# Altium footprint library TYPE-C-31-M-12.PcbLib: 1 footprints
Each footprint in its own frame and in the unit in brackets; x right, y up, seen from the top. Pads: shape width x height; smd on the part's side, far side on the other; paste and mask are expansions set on the pad; w line width, h text height; cw(c..) or ccw(c..) is an arc to the next point about the centre after c.
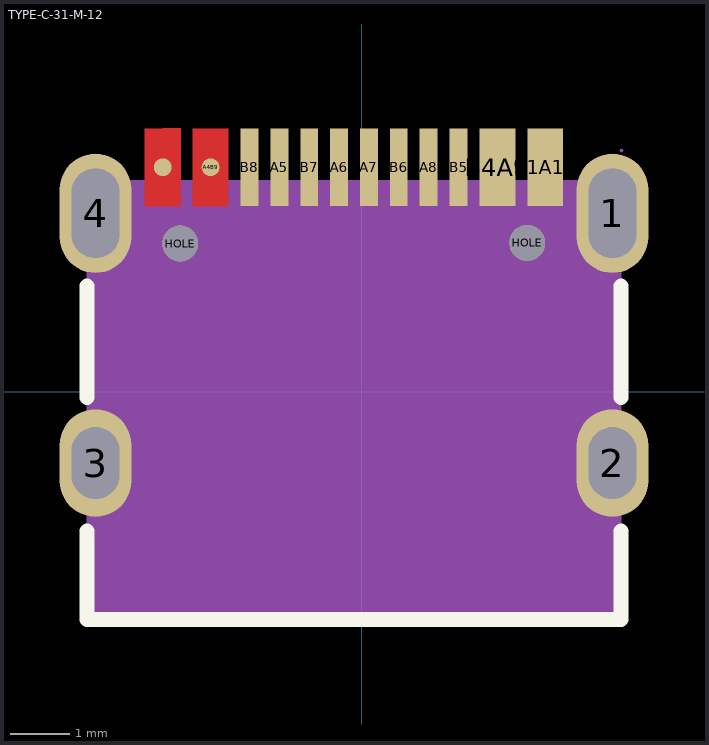
[diagram p0: the footprint, top view; thin cyan lines are the x and y axes]

## TYPE-C-31-M-12 [mil]
pads (18):
  oval 47.2x78.7 hole 31.5 slot 59.1 at 90 deg paste-99999 mask+2: 1(165.1,117.7) 4(-175.5,117.7)
  oval 47.2x70.9 hole 31.5 slot 47.2 at 90 deg paste-99999 mask+2: 2(165.1,-46.9) 3(-175.5,-46.9)
  round 11.8 smd: A1B12(-131.2,148) A4B9(-99.7,148)
  rect 11.8x51.2 smd paste-3937 mask+2: A5(-54.4,148) A6(-15,148) A7(4.6,148) A8(44,148) B5(63.7,148) B6(24.3,148) B7(-34.7,148) B8(-74.1,148)
  rect 23.6x51.2 smd paste-3937 mask+2: B1A12(120.8,148) B4A9(89.3,148)
  round 23.62 hole 23.62 unplated: HOLE(-119.73,97.79) HOLE(108.92,98.2)
Top Layer:
  region: -119.4,122.4 -119.4,173.6 -131.2,173.6 -131.2,173.5 -143,173.5 -143,122.4 -131.2,122.4
  region: -87.9,122.4 -87.9,173.5 -99.7,173.5 -111.5,173.5 -111.5,122.4 -99.7,122.4
Top Overlay:
  lines w10: -181.1,-91.7 -181.1,-150 170.8,-150 170.8,-91.7 ; -181.1,-3.6 -181.1,69.7 ; 170.8,-3.6 170.8,69.8
Top Paste:
  drawing of 16 lines, arcs and shapes, not listed
Mechanical 9:
  region: -181.2,-150 -181.2,139.4 170.8,139.4 170.8,-150
Mechanical 11:
  region: 172.2,159.1 171.8,158.2 171,157.9 170.1,158.2 169.8,159.1 170.1,159.9 171,160.2 171.8,159.9
Mechanical 12:
  region: -181.4,-31.1 -169.6,-31.1 -169.6,-62.6 -181.4,-62.6
  region: 159.2,-31.1 171,-31.1 171,-62.6 159.2,-62.6
  region: 159.2,139.4 171,139.4 171,96.1 159.2,96.1
  region: -181.4,139.4 -169.6,139.4 -169.6,96.1 -181.4,96.1
  region: 59.8,159.1 67.6,159.1 67.6,131.5 59.8,131.5
  region: 40.1,159.1 47.9,159.1 47.9,131.5 40.1,131.5
  region: 20.4,159.1 28.3,159.1 28.3,131.5 20.4,131.5
  region: 0.7,159.1 8.6,159.1 8.6,131.5 0.7,131.5
  region: -19,159.1 -11.1,159.1 -11.1,131.5 -19,131.5
  region: -38.7,159.1 -30.8,159.1 -30.8,131.5 -38.7,131.5
  region: -58.3,159.1 -50.5,159.1 -50.5,131.5 -58.3,131.5
  region: -78,159.1 -70.2,159.1 -70.2,131.5 -78,131.5
  region: -139.1,159.1 -123.3,159.1 -123.3,131.5 -139.1,131.5
  region: -107.6,159.1 -91.8,159.1 -91.8,131.5 -107.6,131.5
  region: 81.4,159.1 97.2,159.1 97.2,131.5 81.4,131.5